# Altium schematic symbol library CON1.Schlib: 1 symbol
Pins are listed as number, name and electrical type; pins without a type are passive.

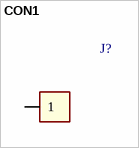
[diagram p0: symbol CON1]

## CON1
designator J?
pins: 1